# Altium footprint library Generic_IC_footprints1.PcbLib: 6 footprints
Each footprint in its own frame and in the unit in brackets; x right, y up, seen from the top. Pads: shape width x height; smd on the part's side, far side on the other; paste and mask are expansions set on the pad; w line width, h text height; cw(c..) or ccw(c..) is an arc to the next point about the centre after c.
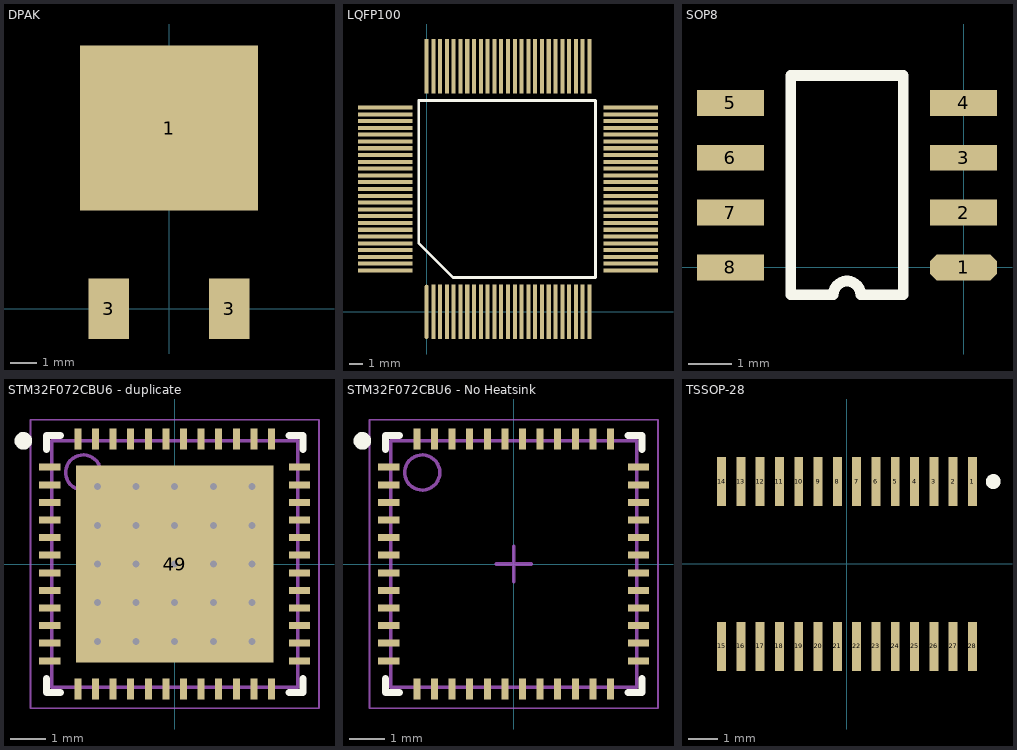
[diagram p0: the footprints below, top view; thin cyan lines are the x and y axes]

## DPAK [mm]
pads (3):
  rect 6.74x6.23 smd: 1(0,6.84)
  rect 1.524x2.28 smd: 3(-2.28,0) 3(2.28,0)
3D body: height 2.3, standoff 0, extent -3.429,-0.254 3.429,8.89

## LQFP100 [mm]
pads (100):
  oval 0.3x4 smd: 1(0,0)
  rect 0.3x4 smd: 2(0.5,0) 3(1,0) 4(1.5,0) 5(2,0) 6(2.5,0) 7(3,0) 8(3.5,0) 9(4,0) 10(4.5,0) 11(5,0) 12(5.5,0) 13(6,0) 14(6.5,0) 15(7,0) 16(7.5,0) 17(8,0) 18(8.5,0) 19(9,0) 20(9.5,0) 21(10,0) 22(10.5,0) 23(11,0) 24(11.5,0) 25(12,0) 51(12,18.1) 52(11.5,18.1) 53(11,18.1) 54(10.5,18.1) 55(10,18.1) 56(9.5,18.1) 57(9,18.1) 58(8.5,18.1) 59(8,18.1) 60(7.5,18.1) 61(7,18.1) 62(6.5,18.1) 63(6,18.1) 64(5.5,18.1) 65(5,18.1) 66(4.5,18.1) 67(4,18.1) 68(3.5,18.1) 69(3,18.1) 70(2.5,18.1) 71(2,18.1) 72(1.5,18.1) 73(1,18.1) 74(0.5,18.1) 75(0,18.1)
  rect 4x0.3 smd: 26(15.05,3.05) 27(15.05,3.55) 28(15.05,4.05) 29(15.05,4.55) 30(15.05,5.05) 31(15.05,5.55) 32(15.05,6.05) 33(15.05,6.55) 34(15.05,7.05) 35(15.05,7.55) 36(15.05,8.05) 37(15.05,8.55) 38(15.05,9.05) 39(15.05,9.55) 40(15.05,10.05) 41(15.05,10.55) 42(15.05,11.05) 43(15.05,11.55) 44(15.05,12.05) 45(15.05,12.55) 46(15.05,13.05) 47(15.05,13.55) 48(15.05,14.05) 49(15.05,14.55) 50(15.05,15.05) 76(-3.05,15.05) 77(-3.05,14.55) 78(-3.05,14.05) 79(-3.05,13.55) 80(-3.05,13.05) 81(-3.05,12.55) 82(-3.05,12.05) 83(-3.05,11.55) 84(-3.05,11.05) 85(-3.05,10.55) 86(-3.05,10.05) 87(-3.05,9.55) 88(-3.05,9.05) 89(-3.05,8.55) 90(-3.05,8.05) 91(-3.05,7.55) 92(-3.05,7.05) 93(-3.05,6.55) 94(-3.05,6.05) 95(-3.05,5.55) 96(-3.05,5.05) 97(-3.05,4.55) 98(-3.05,4.05) 99(-3.05,3.55) 100(-3.05,3.05)
Top Overlay:
  lines w0.2: -0.579,5.068 -0.579,15.563 12.451,15.563 12.451,2.533 1.956,2.533 -0.579,5.068
3D body: height 2, standoff 0, extent -1.905,1.143 13.97,16.764

## SOP8 [mm]
pads (8):
  oct 1.55x0.6 smd: 1(0,0)
  rect 1.55x0.6 smd: 2(0,1.27) 3(0,2.54) 4(0,3.81) 5(-5.4,3.81) 6(-5.4,2.54) 7(-5.4,1.27) 8(-5.4,0)
Top Overlay:
  lines w0.251: -4.003,-0.635 -4.003,4.445 ; -3.988,-0.635 -3.017,-0.635 cw(c-2.7,-0.635) -2.382,-0.635 -1.422,-0.635 ; -3.978,4.445 -2.01,4.445 ; -3.39,4.445 -1.422,4.445 ; -1.397,-0.635 -1.397,4.445
3D body: height 1.75, standoff 0, extent -4.616,-0.621 -0.616,4.379

## STM32F072CBU6 - duplicate [mm] "STMicroelectronics STM32F072CBU6, 32bit ARM Cortex M0 Microcontroller, 48MHz, 64 kB, 128 kB Flash, 48-Pin UFQFPN"
height 0.55
pads (49):
  rect 0.6x0.2 smd: 1(-3.55,2.75) 2(-3.55,2.25) 3(-3.55,1.75) 4(-3.55,1.25) 5(-3.55,0.75) 6(-3.55,0.25) 7(-3.55,-0.25) 8(-3.55,-0.75) 9(-3.55,-1.25) 10(-3.55,-1.75) 11(-3.55,-2.25) 12(-3.55,-2.75) 25(3.55,-2.75) 26(3.55,-2.25) 27(3.55,-1.75) 28(3.55,-1.25) 29(3.55,-0.75) 30(3.55,-0.25) 31(3.55,0.25) 32(3.55,0.75) 33(3.55,1.25) 34(3.55,1.75) 35(3.55,2.25) 36(3.55,2.75)
  rect 0.2x0.6 smd: 13(-2.75,-3.55) 14(-2.25,-3.55) 15(-1.75,-3.55) 16(-1.25,-3.55) 17(-0.75,-3.55) 18(-0.25,-3.55) 19(0.25,-3.55) 20(0.75,-3.55) 21(1.25,-3.55) 22(1.75,-3.55) 23(2.25,-3.55) 24(2.75,-3.55) 37(2.75,3.55) 38(2.25,3.55) 39(1.75,3.55) 40(1.25,3.55) 41(0.75,3.55) 42(0.25,3.55) 43(-0.25,3.55) 44(-0.75,3.55) 45(-1.25,3.55) 46(-1.75,3.55) 47(-2.25,3.55) 48(-2.75,3.55)
  rect 5.6x5.6 smd: 49(0,0)
via 2.2,-2.2 diameter 0.5 hole 0.2
via 1.1,-2.2 diameter 0.5 hole 0.2
via 0,-2.2 diameter 0.5 hole 0.2
via -1.1,-2.2 diameter 0.5 hole 0.2
via -2.2,-2.2 diameter 0.5 hole 0.2
via 2.2,-1.1 diameter 0.5 hole 0.2
via 1.1,-1.1 diameter 0.5 hole 0.2
via 0,-1.1 diameter 0.5 hole 0.2
via -1.1,-1.1 diameter 0.5 hole 0.2
via -2.2,-1.1 diameter 0.5 hole 0.2
via 2.2,0 diameter 0.5 hole 0.2
via 1.1,0 diameter 0.5 hole 0.2
via 0,0 diameter 0.5 hole 0.2
via -1.1,0 diameter 0.5 hole 0.2
via -2.2,0 diameter 0.5 hole 0.2
via 2.2,1.1 diameter 0.5 hole 0.2
via 1.1,1.1 diameter 0.5 hole 0.2
via 0,1.1 diameter 0.5 hole 0.2
via -1.1,1.1 diameter 0.5 hole 0.2
via -2.2,1.1 diameter 0.5 hole 0.2
via 2.2,2.2 diameter 0.5 hole 0.2
via 1.1,2.2 diameter 0.5 hole 0.2
via 0,2.2 diameter 0.5 hole 0.2
via -1.1,2.2 diameter 0.5 hole 0.2
via -2.2,2.2 diameter 0.5 hole 0.2
Top Overlay:
  circle w0.25: c-4.3,3.5 r0.125
  lines w0.2: -3.65,-3.25 -3.65,-3.65 -3.25,-3.65 ; -3.65,3.25 -3.65,3.65 -3.25,3.65 ; 3.25,-3.65 3.65,-3.65 3.65,-3.25 ; 3.25,3.65 3.65,3.65 3.65,3.25
Mechanical 13:
  circle w0.1: c-2.6,2.6 r0.5
  lines w0.1: -3.5,-3.5 3.5,-3.5 3.5,3.5 -3.5,3.5 -3.5,-3.5
Mechanical 15:
  lines w0.05: -4.1,-4.1 4.1,-4.1 4.1,4.1 -4.1,4.1 -4.1,-4.1
  lines w0.1: -0.5,0 0.5,0 ; 0,-0.5 0,0.5
3D body: height 0.55, standoff 0.02, extent -3.5,-3.5 3.5,3.5

## STM32F072CBU6 - No Heatsink [mm] "STMicroelectronics STM32F072CBU6, 32bit ARM Cortex M0 Microcontroller, 48MHz, 64 kB, 128 kB Flash, 48-Pin UFQFPN"
height 0.55
pads (48):
  rect 0.6x0.2 smd: 1(-3.55,2.75) 2(-3.55,2.25) 3(-3.55,1.75) 4(-3.55,1.25) 5(-3.55,0.75) 6(-3.55,0.25) 7(-3.55,-0.25) 8(-3.55,-0.75) 9(-3.55,-1.25) 10(-3.55,-1.75) 11(-3.55,-2.25) 12(-3.55,-2.75) 25(3.55,-2.75) 26(3.55,-2.25) 27(3.55,-1.75) 28(3.55,-1.25) 29(3.55,-0.75) 30(3.55,-0.25) 31(3.55,0.25) 32(3.55,0.75) 33(3.55,1.25) 34(3.55,1.75) 35(3.55,2.25) 36(3.55,2.75)
  rect 0.2x0.6 smd: 13(-2.75,-3.55) 14(-2.25,-3.55) 15(-1.75,-3.55) 16(-1.25,-3.55) 17(-0.75,-3.55) 18(-0.25,-3.55) 19(0.25,-3.55) 20(0.75,-3.55) 21(1.25,-3.55) 22(1.75,-3.55) 23(2.25,-3.55) 24(2.75,-3.55) 37(2.75,3.55) 38(2.25,3.55) 39(1.75,3.55) 40(1.25,3.55) 41(0.75,3.55) 42(0.25,3.55) 43(-0.25,3.55) 44(-0.75,3.55) 45(-1.25,3.55) 46(-1.75,3.55) 47(-2.25,3.55) 48(-2.75,3.55)
Top Overlay:
  circle w0.25: c-4.3,3.5 r0.125
  lines w0.2: -3.65,-3.25 -3.65,-3.65 -3.25,-3.65 ; -3.65,3.25 -3.65,3.65 -3.25,3.65 ; 3.25,-3.65 3.65,-3.65 3.65,-3.25 ; 3.25,3.65 3.65,3.65 3.65,3.25
Mechanical 13:
  circle w0.1: c-2.6,2.6 r0.5
  lines w0.1: -3.5,-3.5 -3.5,3.5 3.5,3.5 3.5,-3.5 -3.5,-3.5
Mechanical 15:
  lines w0.05: -4.1,-4.1 -4.1,4.1 4.1,4.1 4.1,-4.1 -4.1,-4.1
  lines w0.1: -0.5,0 0.5,0 ; 0,-0.5 0,0.5
3D body: height 0.55, standoff 0.02, extent -3.5,-3.5 3.5,3.5

## TSSOP-28 [mm] "Shrink Small Outline; 28 Leads; Body Width 4.4 mm; Pitch 0.65 mm"
height 1.2
pads (28):
  rect 0.3x1.65 smd: 1(4.225,2.775) 2(3.575,2.775) 3(2.925,2.775) 4(2.275,2.775) 5(1.625,2.775) 6(0.975,2.775) 7(0.325,2.775) 8(-0.325,2.775) 9(-0.975,2.775) 10(-1.625,2.775) 11(-2.275,2.775) 12(-2.925,2.775) 13(-3.575,2.775) 14(-4.225,2.775) 15(-4.225,-2.775) 16(-3.575,-2.775) 17(-2.925,-2.775) 18(-2.275,-2.775) 19(-1.625,-2.775) 20(-0.975,-2.775) 21(-0.325,-2.775) 22(0.325,-2.775) 23(0.975,-2.775) 24(1.625,-2.775) 25(2.275,-2.775) 26(2.925,-2.775) 27(3.575,-2.775) 28(4.225,-2.775)
Top Overlay:
  circle w0.25: c4.925,2.775 r0.125